# Altium footprint library epf.PcbLib: 52 footprints (part 3 of 4)
Each footprint in its own frame and in the unit in brackets; x right, y up, seen from the top. Pads: shape width x height; smd on the part's side, far side on the other; paste and mask are expansions set on the pad; w line width, h text height; cw(c..) or ccw(c..) is an arc to the next point about the centre after c.
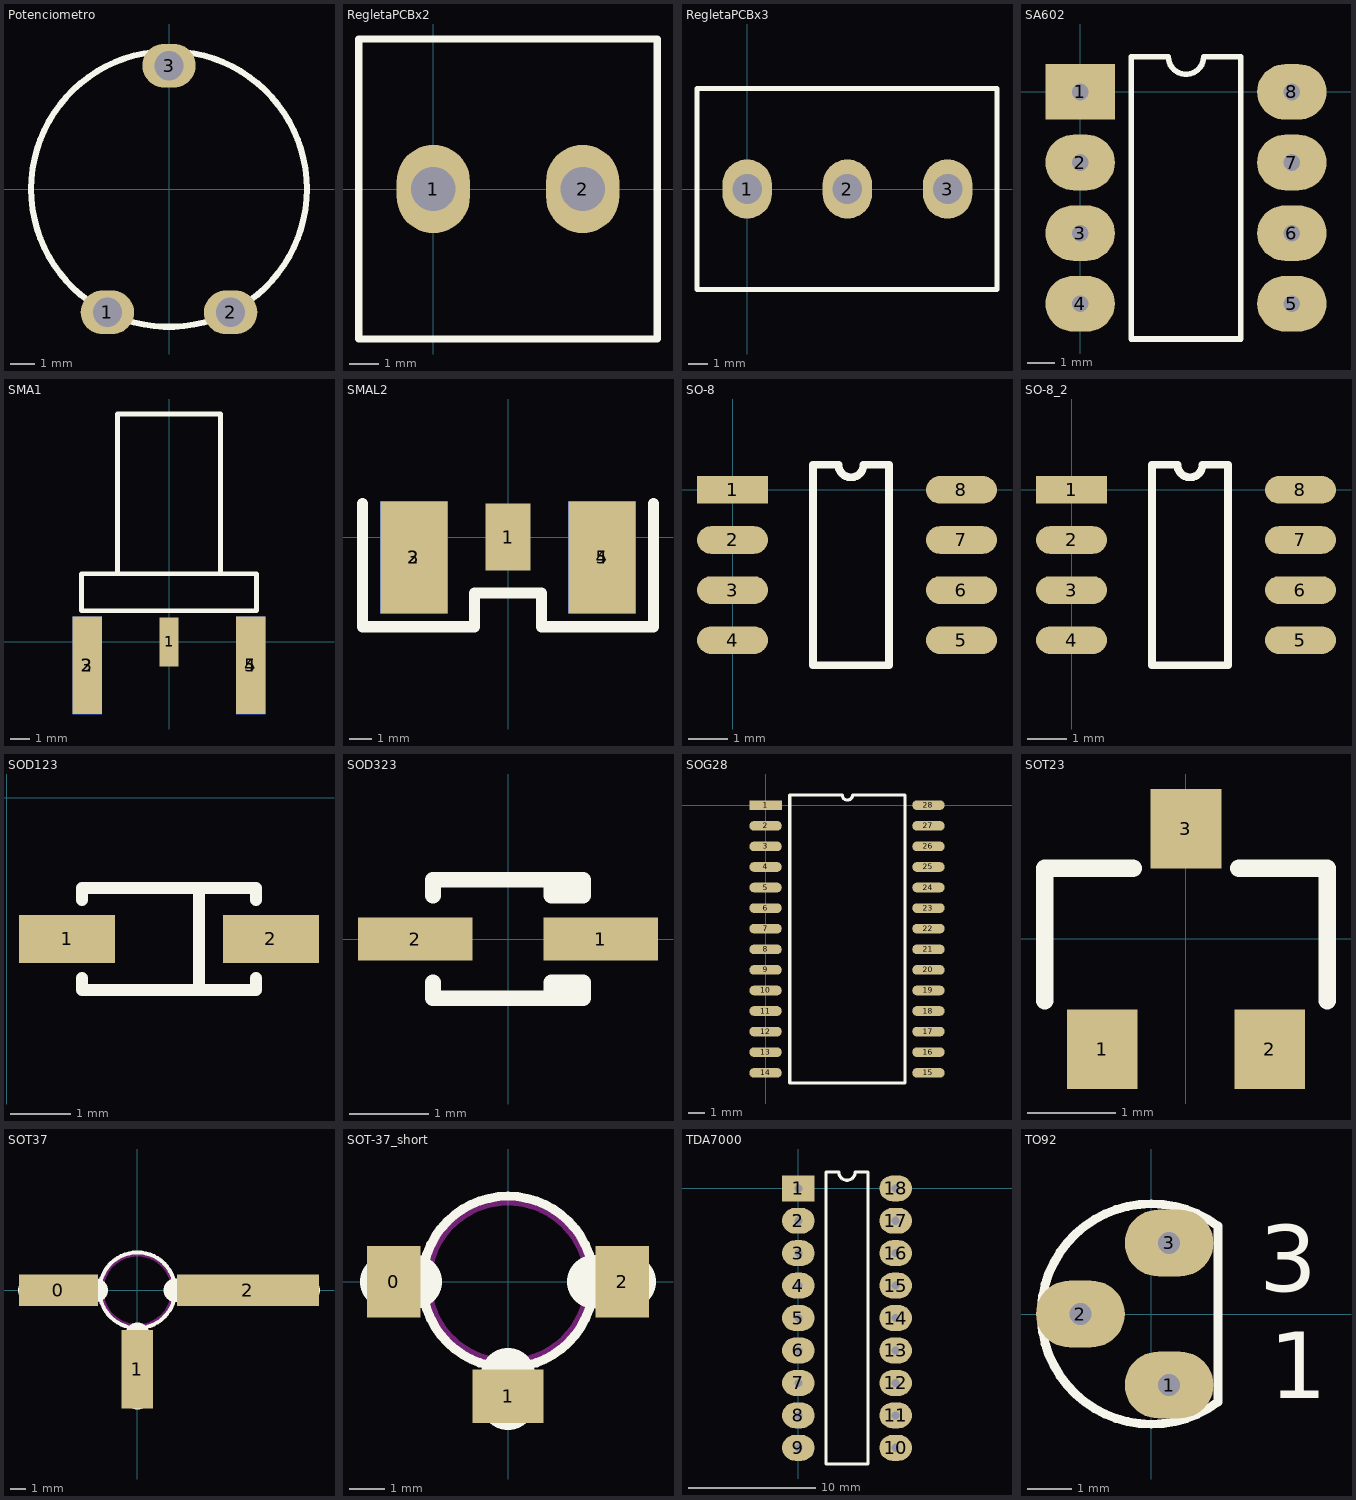
[diagram p2: the footprints below, top view; thin cyan lines are the x and y axes]

## Potenciometro [mm]
height 6
pads (3):
  oval 2.2x1.8 hole 1.2: 1(-2.54,-5.08) 2(2.54,-5.08) 3(0,5.08)
Top Overlay:
  circle w0.254: c0,0 r5.68

## RegletaPCBx2 [mm]
pads (2):
  oval 2.5x3 hole 1.5: 1(0,0) 2(5.08,0)
Top Overlay:
  lines w0.254: -2.54,-5.1 -2.54,5.1 7.62,5.1 7.62,-5.1 -2.54,-5.1

## RegletaPCBx3 [mm]
pads (3):
  oval 2.5x3 hole 1.5: 1(0,0) 2(5.08,0) 3(10.16,0)
Top Overlay:
  lines w0.254: -2.54,-5.1 12.66,-5.1 12.66,5.1 -2.54,5.1 -2.54,-5.1

## SA602 [mm]
pads (8):
  rect 2.5x2 hole 0.6: 1(0,0)
  oval 2.5x2 hole 0.6: 2(0,-2.54) 3(0,-5.08) 4(0,-7.62) 5(7.62,-7.62) 6(7.62,-5.08) 7(7.62,-2.54) 8(7.62,0)
Top Overlay:
  lines w0.2: 1.835,-8.89 5.785,-8.89 5.785,1.27 4.445,1.27 cw(c3.81,1.27) 3.175,1.27 1.835,1.27 1.835,-8.89

## SMA1 [mm]
pads (5):
  rect 1x2.5 smd: 1(0,0)
  rect 1.5x5 smd: 2(-4.2,-1.2) 4(4.2,-1.2)
  rect 1.5x5 smd far side: 3(-4.2,-1.2) 5(4.2,-1.2)
Top Overlay:
  lines w0.254: -2.65,3.5 -2.65,11.7 2.65,11.7 2.65,3.5 ; -4.5,1.6 -4.5,3.5 4.5,3.5 4.5,1.6 -4.5,1.6
3D body: height 2.63, standoff -2.65, extent -2.645,3.499 2.645,11.399
3D body: height 3.95, standoff -3.95, extent -4.499,1.601 4.499,3.499

## SMAL2 [mm]
pads (5):
  rect 2x3 smd: 1(0,0)
  rect 3x5 smd: 2(-4.2,-0.9) 4(4.2,-0.9)
  rect 3x5 smd far side: 3(-4.2,-0.9) 5(4.2,-0.9)
Top Overlay:
  lines w0.5: -6.5,1.5 -6.5,-4 -1.5,-4 -1.5,-2.5 1.5,-2.5 1.5,-4 6.5,-4 6.5,1.5
3D body: height 4.06, standoff -3.86, extent -4.76,-2.95 4.76,10.88

## SO-8 [mm]
pads (8):
  rect 1.8x0.7 smd: 1(0,0)
  oval 1.8x0.7 smd: 2(0,-1.27) 3(0,-2.54) 4(0,-3.81) 5(5.8,-3.81) 6(5.8,-2.54) 7(5.8,-1.27) 8(5.8,0)
Top Overlay:
  lines w0.2: 2.035,-4.445 2.035,0.635 2.682,0.635 ccw(c3,0.635) 3.317,0.635 3.965,0.635 3.965,-4.445 2.035,-4.445
3D body: height 1.45, standoff 0, extent 0.04,-4.343 5.818,0.559

## SO-8_2 [mm]
pads (8):
  rect 1.8x0.7 smd: 1(0,0)
  oval 1.8x0.7 smd: 2(0,-1.27) 3(0,-2.54) 4(0,-3.81) 5(5.8,-3.81) 6(5.8,-2.54) 7(5.8,-1.27) 8(5.8,0)
Top Overlay:
  lines w0.2: 2.035,-4.445 3.965,-4.445 3.965,0.635 3.317,0.635 cw(c3,0.635) 2.682,0.635 2.035,0.635 2.035,-4.445
3D body: height 1.6, standoff 0, extent -0.095,-4.385 5.895,0.515

## SOD123 [mm]
pads (2):
  rect 1.6x0.8 smd: 1(1,-2.35) 2(4.4,-2.35)
Top Overlay:
  lines w0.2: 1.25,-3 1.25,-3.2 4.15,-3.2 4.15,-3 ; 1.25,-1.7 1.25,-1.5 4.15,-1.5 4.15,-1.7 ; 3.2,-3.2 3.2,-1.5

## SOD323 [mm]
pads (2):
  rect 1.45x0.55 smd: 1(1.175,0) 2(-1.175,0)
Top Overlay:
  lines w0.2: -0.95,-0.55 -0.95,-0.75 0.95,-0.75 0.95,-0.55 0.55,-0.55 0.55,-0.75 ; -0.95,0.55 -0.95,0.75 0.95,0.75 0.95,0.55 0.55,0.55 0.55,0.75

## SOG28 [mm]
pads (28):
  rect 2x0.6 smd: 1(0,0)
  oval 2x0.6 smd: 2(0,-1.27) 3(0,-2.54) 4(0,-3.81) 5(0,-5.08) 6(0,-6.35) 7(0,-7.62) 8(0,-8.89) 9(0,-10.16) 10(0,-11.43) 11(0,-12.7) 12(0,-13.97) 13(0,-15.24) 14(0,-16.51) 15(10.05,-16.51) 16(10.05,-15.24) 17(10.05,-13.97) 18(10.05,-12.7) 19(10.05,-11.43) 20(10.05,-10.16) 21(10.05,-8.89) 22(10.05,-7.62) 23(10.05,-6.35) 24(10.05,-5.08) 25(10.05,-3.81) 26(10.05,-2.54) 27(10.05,-1.27) 28(10.05,0)
Top Overlay:
  lines w0.2: 1.5,-17.145 8.6,-17.145 8.6,0.635 5.367,0.635 cw(c5.05,0.635) 4.732,0.635 1.5,0.635 1.5,-17.145
3D body: height 0, standoff 0, extent 1.499,-17.146 8.601,0.636
3D body: height 1.5, standoff 0, extent 1.499,-17.146 8.601,0.636

## SOT23 [mm]
pads (3):
  rect 0.8x0.9 smd: 1(-0.95,-1.25) 2(0.95,-1.25) 3(0,1.25)
Top Overlay:
  lines w0.2: -1.6,-0.7 -1.6,0.8 -0.6,0.8 ; 0.6,0.8 1.6,0.8 1.6,-0.7
3D body: height 1.05, standoff -0.05, extent -1.5,-1.25 1.5,1.25

## SOT37 [mm] "MacroT"
height 2.7
pads (3):
  rect 5x2 smd: 0(-5,0)
  rect 2x5 smd: 1(0,-5)
  rect 9x2 smd: 2(7,0)
Top Overlay:
  circle w0.254: c0,0 r2.4
  lines w1.5: -6.8,0 -2.6,0 ; 0,-6.8 0,-2.8 ; 2.4,0 10.8,0
Keep-Out Layer:
  circle w0.254: c0,0 r2.263

## SOT-37_short [mm] "Recortado"
height 12
pads (3):
  rect 1.5x2 smd: 0(-3.2,0) 2(3.2,0)
  rect 2x1.5 smd: 1(0,-3.2)
Top Overlay:
  circle w0.254: c0,0 r2.4
  lines w1.5: -3.4,0 -2.6,0 ; 0,-3.4 0,-2.6 ; 2.4,0 3.4,0
Keep-Out Layer:
  circle w0.254: c0,0 r2.263

## TDA7000 [mil]
pads (18):
  rect 100x80 hole 25: 1(0,0)
  oval 100x80 hole 25: 2(0,-100) 3(0,-200) 4(0,-300) 5(0,-400) 6(0,-500) 7(0,-600) 8(0,-700) 9(0,-800) 10(300,-800) 11(300,-700) 12(300,-600) 13(300,-500) 14(300,-400) 15(300,-300) 16(300,-200) 17(300,-100) 18(300,0)
Top Overlay:
  lines w10: 85,-850 85,50 125,50 ccw(c150,50) 175,50 215,50 215,-850 85,-850

## TO92 [mm] "TO, Flat Index; 3 In-Line, Axial Leads; Body Dia. 4.5mm; Leads 0.51 x 0.48 mm (max)"
height 6.86
pads (3):
  oval 2x1.5 hole 0.5: 1(0.4,-1.6) 2(-1.6,0) 3(0.4,1.6)
Top Overlay:
  lines w0.2: 1.5,-1.98 cw(c0,0) 1.5,1.98 1.5,-1.98
  text "1" at 2.66,-1.9 h1.5
  text "3" at 2.43,0.51 h1.5